# Altium integrated library 555.IntLib: 8 symbols
Pins are listed as number, name and electrical type; pins without a type are passive.

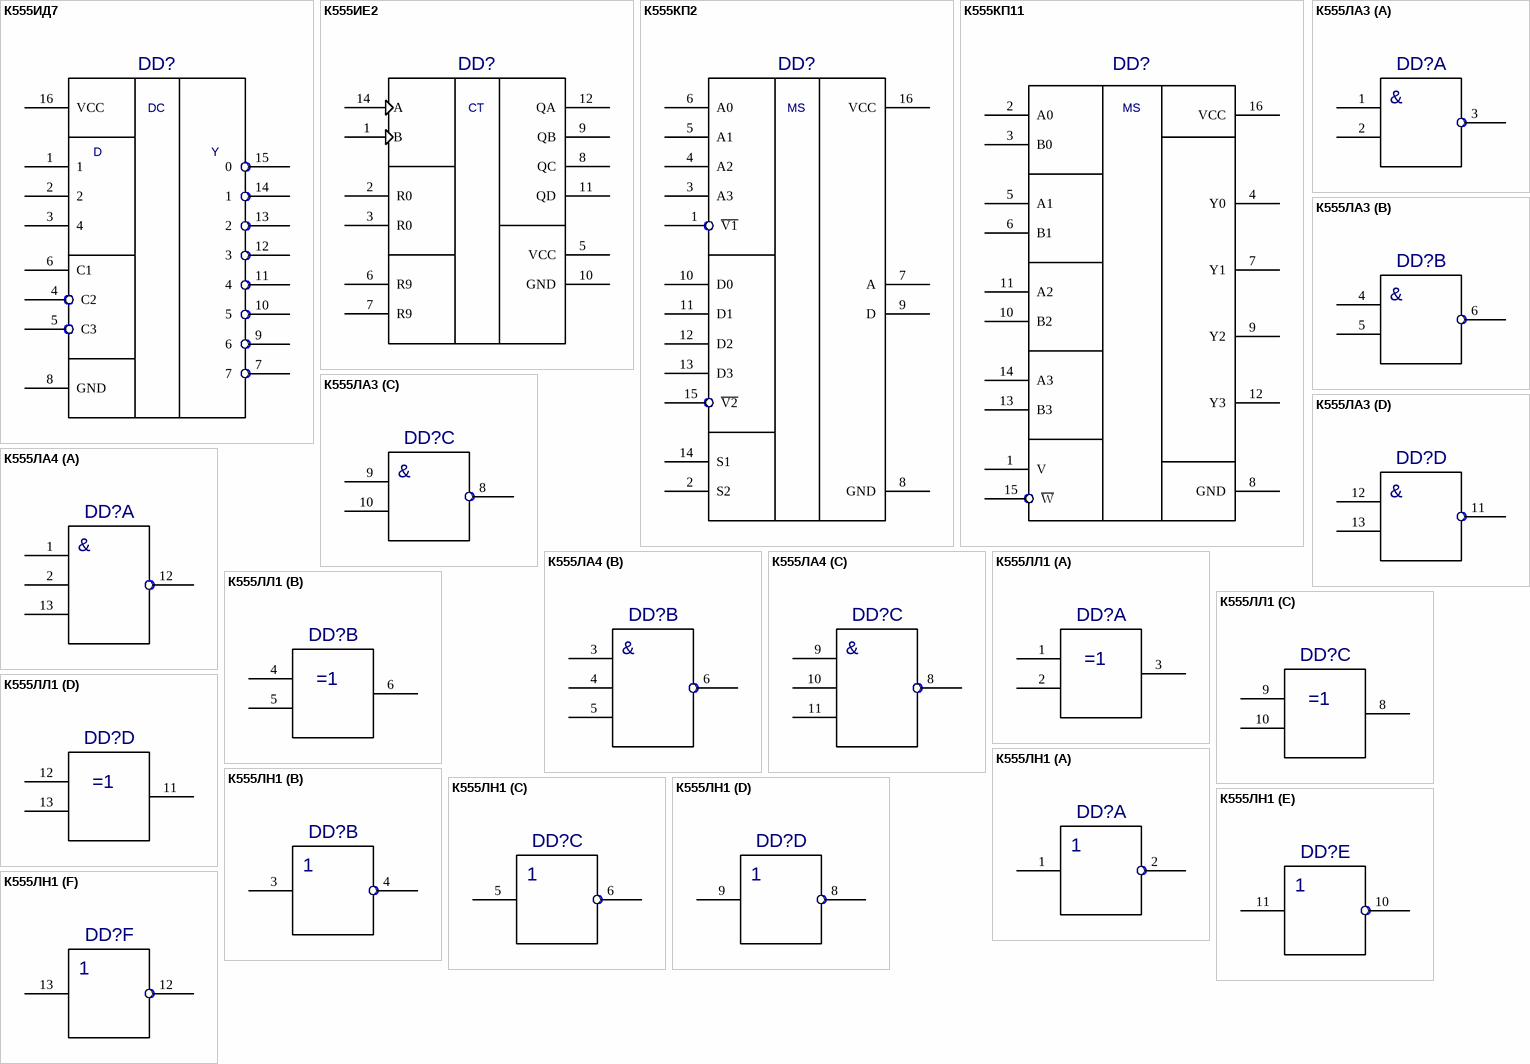
[diagram p0: symbols К555ИД7 to К555ЛН1]

## К555ИД7
designator DD?  (value not drawn)
Author: pcbdesigner.ru; Value: *
footprint 238.16-1
pins: 1, 2, 3 4, 4 C2, 5 C3, 6 C1, 7, 8 GND, 9 6, 10 5, 11 4, 12 3, 13 2, 14 1, 15 0, 16 VCC
text: DC; D; Y

## К555ИЕ2
designator DD?  (value not drawn)
Author: pcbdesigner.ru; Value: *
footprint 201.14-1
pins: 1 B, 2 R0, 3 R0, 4 hidden, 5 VCC, 6 R9, 7 R9, 8 QC, 9 QB, 10 GND, 11 QD, 12 QA, 13 hidden, 14 A
text: CT

## К555КП2
designator DD?  (value not drawn)
Author: pcbdesigner.ru; Value: *
footprint 238.16-1
pins: 1 ~{V1}, 2 S2, 3 A3, 4 A2, 5 A1, 6 A0, 7 A, 8 GND, 9 D, 10 D0, 11 D1, 12 D2, 13 D3, 14 S1, 15 ~{V2}, 16 VCC
text: MS

## К555КП11
designator DD?  (value not drawn)
Author: pcbdesigner.ru; Value: *
footprint 238.16-1
pins: 1 V, 2 A0, 3 B0, 4 Y0, 5 A1, 6 B1, 7 Y1, 8 GND, 9 Y2, 10 B2, 11 A2, 12 Y3, 13 B3, 14 A3, 15 ~{W}, 16 VCC
text: MS

## К555ЛА3
designator DD?  (value not drawn)
Value: *
footprint 201.14-1
pins on every part: 7 GND (power) hidden, 14 VCC (power) hidden
part A pins: 1, 2, 3
part B pins: 4 1, 5 2, 6 3
part C pins: 8 3, 9 1, 10 2
part D pins: 11 3, 12 1, 13 2
part A text: &
part B text: &
part C text: &
part D text: &

## К555ЛА4
designator DD?  (value not drawn)
Value: *
footprint 201.14-1
pins on every part: 7 GND (power) hidden, 14 VCC (power) hidden
part A pins: 1, 2, 12 4, 13 3
part B pins: 3 1, 4 2, 5 3, 6 4
part C pins: 8 4, 9 1, 10 2, 11 3
part A text: &
part B text: &
part C text: &

## К555ЛЛ1
designator DD?  (value not drawn)
Value: *
footprint 201.14-1
pins on every part: 7 GND (power) hidden, 14 VCC (power) hidden
part A pins: 1, 2, 3
part B pins: 4 1, 5 2, 6 3
part C pins: 8 3, 9 1, 10 2
part D pins: 11 3, 12 1, 13 2

## К555ЛН1
designator DD?  (value not drawn)
Value: *
footprint 201.14-1
pins on every part: 7 GND (power) hidden, 14 VCC (power) hidden
part A pins: 1, 2
part B pins: 3 1, 4 2
part C pins: 5 1, 6 2
part D pins: 8 2, 9 1
part E pins: 10 2, 11 1
part F pins: 12 2, 13 1